# EAGLE library part STM32H745ZX (library balto)
STM32F427xx STM32F429xx
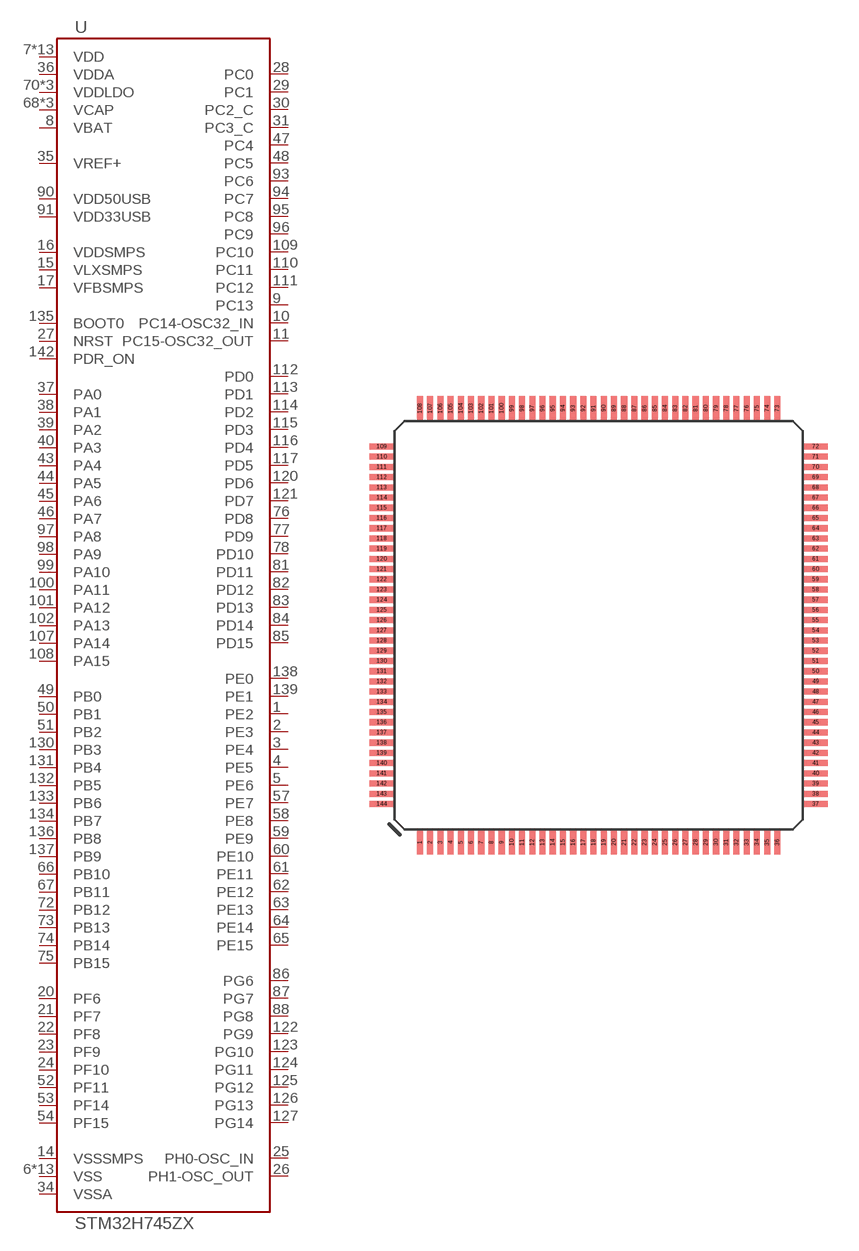
[diagram p84: symbol with the pads of LQFP144-ST; footprint LQFP144-ST]

Designator prefix U

## STM32H745ZX  [LQFP144-ST]
1  PE2
2  PE3
3  PE4
4  PE5
5  PE6
6  VSS
7  VDD
8  VBAT
9  PC13
10  PC14-OSC32_IN
11  PC15-OSC32_OUT
12  VSS
13  VDD
14  VSSSMPS
15  VLXSMPS
16  VDDSMPS
17  VFBSMPS
18  VSS
19  VDD
20  PF6
21  PF7
22  PF8
23  PF9
24  PF10
25  PH0-OSC_IN
26  PH1-OSC_OUT
27  NRST
28  PC0
29  PC1
30  PC2_C
31  PC3_C
32  VDD
33  VSS
34  VSSA
35  VREF+
36  VDDA
37  PA0
38  PA1
39  PA2
40  PA3
41  VSS
42  VDD
43  PA4
44  PA5
45  PA6
46  PA7
47  PC4
48  PC5
49  PB0
50  PB1
51  PB2
52  PF11
53  PF14
54  PF15
55  VSS
56  VDD
57  PE7
58  PE8
59  PE9
60  PE10
61  PE11
62  PE12
63  PE13
64  PE14
65  PE15
66  PB10
67  PB11
68  VCAP
69  VSS
70  VDDLDO
71  VDD
72  PB12
73  PB13
74  PB14
75  PB15
76  PD8
77  PD9
78  PD10
79  VDD
80  VSS
81  PD11
82  PD12
83  PD13
84  PD14
85  PD15
86  PG6
87  PG7
88  PG8
89  VSS
90  VDD50USB
91  VDD33USB
92  VDD
93  PC6
94  PC7
95  PC8
96  PC9
97  PA8
98  PA9
99  PA10
100  PA11
101  PA12
102  PA13
103  VCAP
104  VSS
105  VDDLDO
106  VDD
107  PA14
108  PA15
109  PC10
110  PC11
111  PC12
112  PD0
113  PD1
114  PD2
115  PD3
116  PD4
117  PD5
118  VSS
119  VDD
120  PD6
121  PD7
122  PG9
123  PG10
124  PG11
125  PG12
126  PG13
127  PG14
128  VSS
129  VDD
130  PB3
131  PB4
132  PB5
133  PB6
134  PB7
135  BOOT0
136  PB8
137  PB9
138  PE0
139  PE1
140  VCAP
141  VSS
142  PDR_ON
143  VDDLDO
144  VDD

## Footprint LQFP144-ST (pad centres in mm)
LQFP144 - 144-pin, 20 x 20 mm low-profile quad flat package
smd 0.3 x 1.2: 1 -8.75,-10.625; 2 -8.25,-10.625; 3 -7.75,-10.625; 4 -7.25,-10.625; 5 -6.75,-10.625; 6 -6.25,-10.625; 7 -5.75,-10.625; 8 -5.25,-10.625; 9 -4.75,-10.625; 10 -4.25,-10.625; 11 -3.75,-10.625; 12 -3.25,-10.625; 13 -2.75,-10.625; 14 -2.25,-10.625; 15 -1.75,-10.625; 16 -1.25,-10.625; 17 -0.75,-10.625; 18 -0.25,-10.625; 19 0.25,-10.625; 20 0.75,-10.625; 21 1.25,-10.625; 22 1.75,-10.625; 23 2.25,-10.625; 24 2.75,-10.625; 25 3.25,-10.625; 26 3.75,-10.625; 27 4.25,-10.625; 28 4.75,-10.625; 29 5.25,-10.625; 30 5.75,-10.625; 31 6.25,-10.625; 32 6.75,-10.625; 33 7.25,-10.625; 34 7.75,-10.625; 35 8.25,-10.625; 36 8.75,-10.625; 73 8.75,10.625; 74 8.25,10.625; 75 7.75,10.625; 76 7.25,10.625; 77 6.75,10.625; 78 6.25,10.625; 79 5.75,10.625; 80 5.25,10.625; 81 4.75,10.625; 82 4.25,10.625; 83 3.75,10.625; 84 3.25,10.625; 85 2.75,10.625; 86 2.25,10.625; 87 1.75,10.625; 88 1.25,10.625; 89 0.75,10.625; 90 0.25,10.625; 91 -0.25,10.625; 92 -0.75,10.625; 93 -1.25,10.625; 94 -1.75,10.625; 95 -2.25,10.625; 96 -2.75,10.625; 97 -3.25,10.625; 98 -3.75,10.625; 99 -4.25,10.625; 100 -4.75,10.625; 101 -5.25,10.625; 102 -5.75,10.625; 103 -6.25,10.625; 104 -6.75,10.625; 105 -7.25,10.625; 106 -7.75,10.625; 107 -8.25,10.625; 108 -8.75,10.625
smd 1.2 x 0.3: 37 10.625,-8.75; 38 10.625,-8.25; 39 10.625,-7.75; 40 10.625,-7.25; 41 10.625,-6.75; 42 10.625,-6.25; 43 10.625,-5.75; 44 10.625,-5.25; 45 10.625,-4.75; 46 10.625,-4.25; 47 10.625,-3.75; 48 10.625,-3.25; 49 10.625,-2.75; 50 10.625,-2.25; 51 10.625,-1.75; 52 10.625,-1.25; 53 10.625,-0.75; 54 10.625,-0.25; 55 10.625,0.25; 56 10.625,0.75; 57 10.625,1.25; 58 10.625,1.75; 59 10.625,2.25; 60 10.625,2.75; 61 10.625,3.25; 62 10.625,3.75; 63 10.625,4.25; 64 10.625,4.75; 65 10.625,5.25; 66 10.625,5.75; 67 10.625,6.25; 68 10.625,6.75; 69 10.625,7.25; 70 10.625,7.75; 71 10.625,8.25; 72 10.625,8.75; 109 -10.625,8.75; 110 -10.625,8.25; 111 -10.625,7.75; 112 -10.625,7.25; 113 -10.625,6.75; 114 -10.625,6.25; 115 -10.625,5.75; 116 -10.625,5.25; 117 -10.625,4.75; 118 -10.625,4.25; 119 -10.625,3.75; 120 -10.625,3.25; 121 -10.625,2.75; 122 -10.625,2.25; 123 -10.625,1.75; 124 -10.625,1.25; 125 -10.625,0.75; 126 -10.625,0.25; 127 -10.625,-0.25; 128 -10.625,-0.75; 129 -10.625,-1.25; 130 -10.625,-1.75; 131 -10.625,-2.25; 132 -10.625,-2.75; 133 -10.625,-3.25; 134 -10.625,-3.75; 135 -10.625,-4.25; 136 -10.625,-4.75; 137 -10.625,-5.25; 138 -10.625,-5.75; 139 -10.625,-6.25; 140 -10.625,-6.75; 141 -10.625,-7.25; 142 -10.625,-7.75; 143 -10.625,-8.25; 144 -10.625,-8.75